# Altium schematic symbol library buck3.SchLib: 10 symbols
Pins are listed as number, name and electrical type; pins without a type are passive.

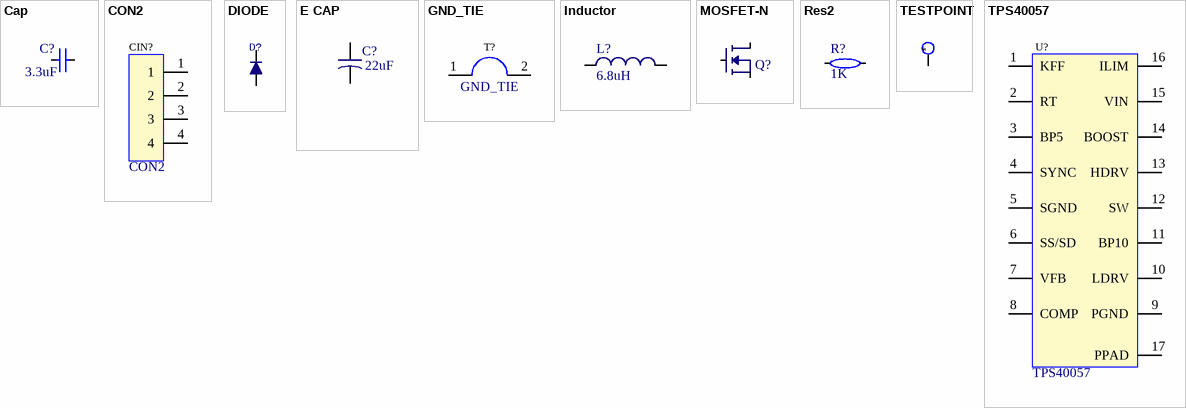
[diagram p0: symbols Cap to TPS40057]

## Cap
designator C?, comment 3.3uF
Capacitor; Published: 8-Jun-2000; LatestRevisionDate: 17-Jul-2002; LatestRevisionNote: Re-released for DXP Platform.; PackageReference: RAD-0.3; Publisher: Altium Limited; PackageDescription: Radial Cap, Thru-Hole; 2 Leads; 0.3 in Pin Spacing; Value: 3.3uF
footprint CAPC_1206_3216X16L (Chip Capacitor, 2-Leads, Body 3.20x1.60mm, IPC High Density)
footprint CAPC_0603_1608X08L (Chip Capacitor, 2-Leads, Body 1.60x0.80mm, IPC High Density)
footprint CAPC 0603 1608X05L
footprint CAPC 1210 (Ceramic Capacitor 1210)
pins: 1, 2

## CON2
designator CIN?  (no BOM)
footprint CON2 (5.08mm connection holes)
pins: 1 "TP", 2 "TP", 3 "TP", 4 "TP"

## DIODE
designator D?  (value not drawn)
footprint SODFL350X110-2N (SODFL, 2-Leads, Body 1.70x3.50mm, IPC Medium Density)
pins: 1 CATHODE (power), 2 ANODE (power)

## E CAP
designator C?, comment 22uF
Capacitor; Value: 22uF; ClassName: caps
footprint CAPAE6053X59M (Aluminum Electrolytic Capacitor, Body 5.30x5.30x5.90mm, IPC Low Density)
footprint CAPAE5252X59N (Aluminum Electrolytic Capacitor, Body 5.50x5.25x5.90mm, IPC Medium Density)
footprint CAPAE10083X104N
footprint CAPAE110103X125L (Aluminum Electrolytic Capacitor, Body 10.30x10.30x12.50mm, IPC High Density)
pins: 1, 2

## GND_TIE
designator T?  (net tie, no BOM)
footprint GND_TIE
pins: 1, 2 "TP"

## Inductor
designator L?  value 6.8uH  (hidden comment: Inductor)
Code_IEC: 1005; Published: 8-Jun-2000; LatestRevisionDate: 29-May-2009; LatestRevisionNote: IPC-7351 Footprint Added.; PackageReference: 0402-A; Publisher: Altium Limited; PackageDescription: Chip Inductor; Code_JEITA: 0402
footprint INDUCTOR 8040 (Precision Wire Wound Inductor, 2-Leads, Body 9.70x9.70mm, IPC High Density)
pins: 1, 2

## MOSFET-N
designator Q?, comment Infineon BSC093N04LSGATMA1  (value not drawn)
N Channel MOSFET; Value: Infineon BSC093N04LSGATMA1
footprint INF-PG-TDSON-8-1_V (TDSON, 8-Leads, Body 6.15x5.15mm, Pitch 1.27mm)
pins: 1 S, 2 S, 3 S, 4 G, 5 D, 6 D, 7 D, 8

## Res2
designator R?, comment 1K
Resistor; Published: 8-Jun-2000; LatestRevisionDate: 17-Jul-2002; LatestRevisionNote: Re-released for DXP Platform.; PackageReference: AXIAL-0.4; Publisher: Altium Limited; PackageDescription: Axial Device, Thru-Hole; 2 Leads; 0.4 in Pin Spacing; Value: 1K
footprint RESC_0603_1608X08L (Chip Resistor, 2-Leads, Body 1.60x0.80mm, IPC High Density)
footprint RESC 0603 1608X05L
pins: 1, 2

## TESTPOINT
designator *  (value not drawn)  (no BOM)
footprint TESTPOINT_SM (Small testpoint)
pins: 1 "TP"

## TPS40057
designator U?
Buck Controller; Value: TPS40057
footprint TSOP65P640X120_HS-17N (TSOP, 16-Leads, Body 5.00x4.40mm, Pitch 0.65mm, Thermal Pad 2.31x2.46mm, IPC Medium Density)
pins: 1 KFF "TP", 2 RT "TP", 3 BP5 "TP", 4 SYNC "TP", 5 SGND "TP", 6 SS/SD "TP", 7 VFB "TP", 8 COMP "TP", 9 PGND "TP", 10 LDRV "TP", 11 BP10 "TP", 12 SW "TP", 13 HDRV "TP", 14 BOOST "TP", 15 VIN "TP", 16 ILIM "TP", 17 PPAD "TP"